# EAGLE library part BMP280 (library SpatiumB)
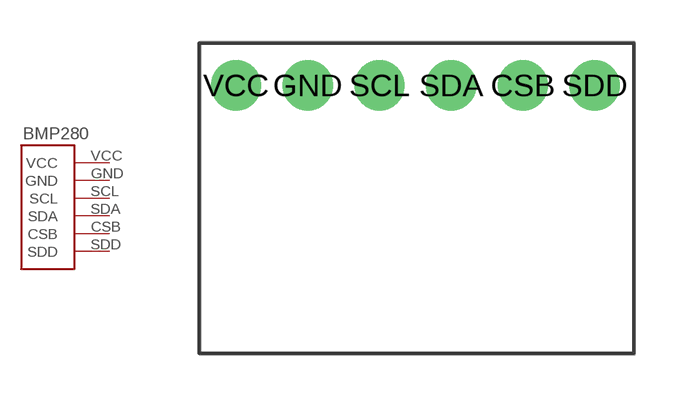
[diagram p1: symbol with the pads of BMP280; footprint BMP280]

Designator prefix BMP280

## BMP280  [BMP280]
CSB  CSB
GND  GND
SCL  SCL
SDA  SDA
SDD  SDD
VCC  VCC

## Footprint BMP280 (pad centres in mm)
drill 0.9 pad 1.778: CSB 3.81,3.81; GND -3.81,3.81; SCL -1.27,3.81; SDA 1.27,3.81; SDD 6.35,3.81; VCC -6.35,3.81